# EAGLE library part ?AD9834 (library ad983x)
The AD9834 is a 75 MHz low power DDS device capable of producing high performance sine and triangular outputs. It also has an on-board comparator that allows a square wave to be produced for clock generation. Consuming only 20 mW of power at 3 V makes the AD9834 an ideal candidate for power-sensitive applications.
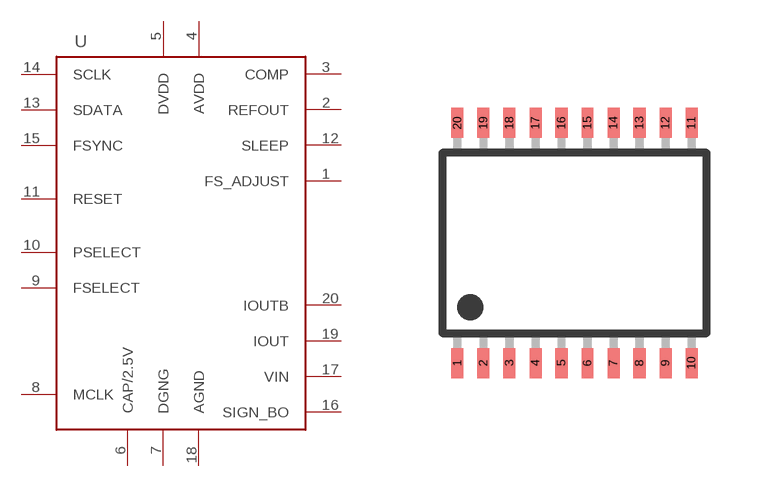
[diagram p0: symbol with the pads of TSSOP20; footprint TSSOP20]

Designator prefix U

## AD9834  [TSSOP20]
1  FS_ADJUST
2  REFOUT
3  COMP
4  AVDD  pwr
5  DVDD  pwr
6  CAP/2.5V
7  DGNG  pwr
8  MCLK  in
9  FSELECT  in
10  PSELECT  in
11  RESET  in
12  SLEEP  in
13  SDATA  in
14  SCLK  in
15  FSYNC  in
16  SIGN_BO  out
17  VIN  in
18  AGND  pwr
19  IOUT  out
20  IOUTB  out

## Footprint TSSOP20 (pad centres in mm)
smd 0.3 x 0.75: 1 -3.1,-3.095; 2 -2.45,-3.095; 3 -1.8,-3.095; 4 -1.15,-3.095; 5 -0.5,-3.095; 6 0.15,-3.095; 7 0.8,-3.095; 8 1.45,-3.095; 9 2.1,-3.095; 10 2.75,-3.095; 11 2.75,2.905; 12 2.1,2.905; 13 1.45,2.905; 14 0.8,2.905; 15 0.15,2.905; 16 -0.5,2.905; 17 -1.15,2.905; 18 -1.8,2.905; 19 -2.45,2.905; 20 -3.1,2.905